# Altium footprint library BGA20C40P5X4_200X161X60.PcbLib: 1 footprints
Each footprint in its own frame and in the unit in brackets; x right, y up, seen from the top. Pads: shape width x height; smd on the part's side, far side on the other; paste and mask are expansions set on the pad; w line width, h text height; cw(c..) or ccw(c..) is an arc to the next point about the centre after c.
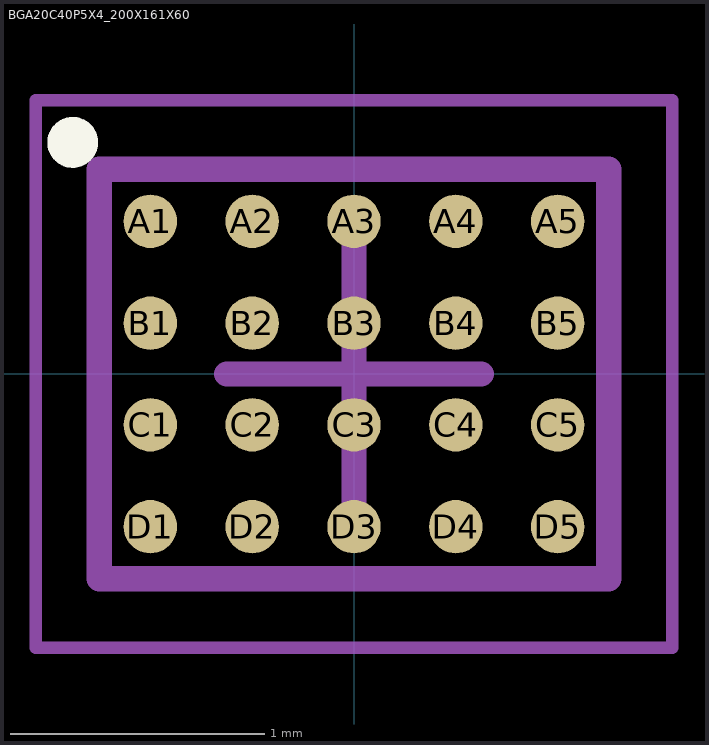
[diagram p0: the footprint, top view; thin cyan lines are the x and y axes]

## BGA20C40P5X4_200X161X60 [mm] "BGA, 20-Leads, Body 2.00x1.61mmx0.60mm, Pitch 0.40mm"
height 0.6
pads (20):
  round 0.21 smd mask+0: A1(-0.8,0.6) A2(-0.4,0.6) A3(0,0.6) A4(0.4,0.6) A5(0.8,0.6) B1(-0.8,0.2) B2(-0.4,0.2) B3(0,0.2) B4(0.4,0.2) B5(0.8,0.2) C1(-0.8,-0.2) C2(-0.4,-0.2) C3(0,-0.2) C4(0.4,-0.2) C5(0.8,-0.2) D1(-0.8,-0.6) D2(-0.4,-0.6) D3(0,-0.6) D4(0.4,-0.6) D5(0.8,-0.6)
Top Overlay:
  circle w0.1: c-1.105,0.91 r0.05
Comp Assy Info - Top:
  lines w0.1: -1,-0.805 1,-0.805 1,0.805 -1,0.805 -1,-0.805
Courtyards/Models - Top:
  lines w0.05: -1.25,-1.075 1.25,-1.075 1.25,1.075 -1.25,1.075 -1.25,-1.075
  lines w0.1: -0.5,0 0.5,0 ; 0,-0.5 0,0.5
3D body: height 0.6, standoff 0.18, extent -1,-0.805 1,0.805